# Altium integrated library LC1486CB5TR.IntLib: 1 symbol
Pins are listed as number, name and electrical type; pins without a type are passive.

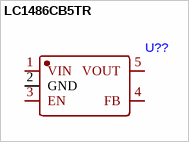
[diagram p0: symbol LC1486CB5TR]

## LC1486CB5TR
designator U??
footprint SOT-23-5_L3.0-W1.7-P0.95-LS2.8-BL
pins: 1 VIN, 2 GND, 3 EN, 4 FB, 5 VOUT